# Altium footprint library nucleoduro_lib_audio.PcbLib: 17 footprints (part 2 of 2)
Each footprint in its own frame and in the unit in brackets; x right, y up, seen from the top. Pads: shape width x height; smd on the part's side, far side on the other; paste and mask are expansions set on the pad; w line width, h text height; cw(c..) or ccw(c..) is an arc to the next point about the centre after c.
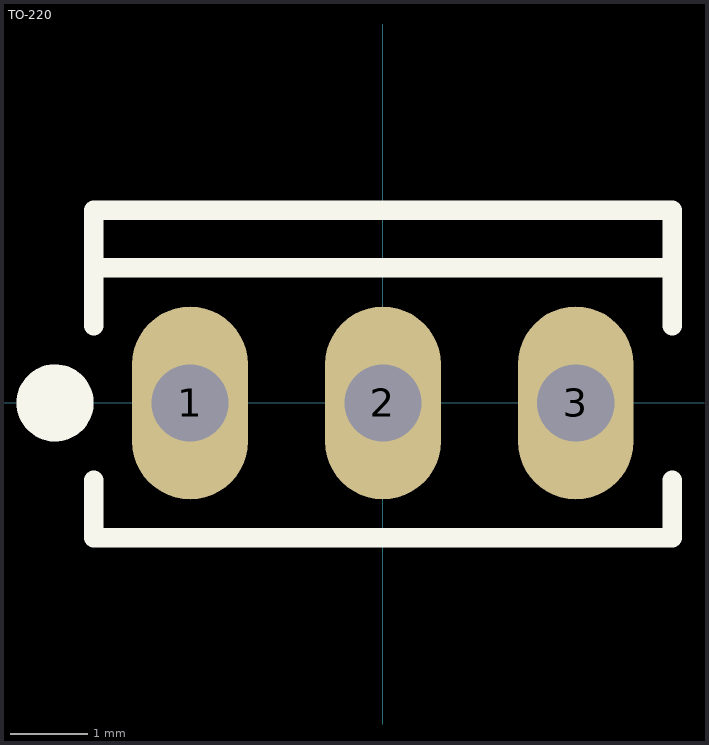
[diagram p1: the footprint, top view; thin cyan lines are the x and y axes]

## TO-220 [mm]
height 15
pads (3):
  oval 1.5x2.5 hole 1: 1(-2.5,0) 2(0,0) 3(2.5,0)
Top Overlay:
  circle w0.5: c-4.25,0 r0.25
  lines w0.254: -3.75,-1 -3.75,-1.75 3.75,-1.75 3.75,-1 ; -3.75,1 -3.75,1.75 ; 3.75,1 3.75,1.75 ; -3.75,1.75 -3.75,2.5 3.75,2.5 3.75,1.75 ; -3.75,1.75 3.75,1.75
3D body: height 23.2, standoff 16.8, extent -5,1.75 5,2.5
3D body: height 16.8, standoff 7.2, extent -4.25,1.75 4.25,2.5
3D body: height 16.8, standoff 7.2, extent -5,-1.75 5,2.5
3D body: height 7.2, standoff 3.6, extent -3.125,-0.25 -1.875,0.25
3D body: height 3.6, standoff -3, extent -2.875,-0.25 -2.125,0.25
3D body: height 3.6, standoff -3, extent -0.375,-0.25 0.375,0.25
3D body: height 7.2, standoff 3.6, extent -0.625,-0.25 0.625,0.25
3D body: height 3.6, standoff -3, extent 2.125,-0.25 2.875,0.25
3D body: height 7.2, standoff 3.6, extent 1.875,-0.25 3.125,0.25